# EAGLE library part 1571983-4 (library Switch)
SWITCH SLIDE DIP SPST 25MA 24V Manufacturer's datasheet <https://www.te.com/commerce/DocumentDelivery/DDEController?Action=srchrtrv&DocNm=1571983&DocType=Customer+Drawing&DocLang=English>
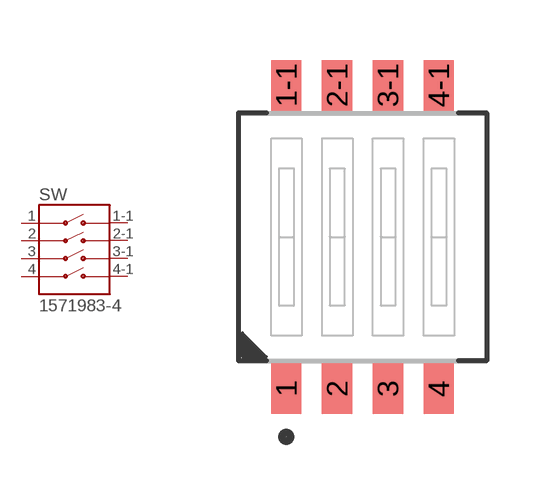
[diagram p5: symbol with the pads of 1571983-4; footprint 1571983-4]

Designator prefix SW

## 1571983-4 (CREATED_BY: PCBLayout.com; DIGIKEY_PART_NUMBER: 450-1353-ND; MANUFACTURER: TE Connectivity ALCOSWITCH Switches; MPN: 1571983-4)  [1571983-4]
1  1  pas
1-1  1-1  pas
2  2  pas
2-1  2-1  pas
3  3  pas
3-1  3-1  pas
4  4  pas
4-1  4-1  pas

## Footprint 1571983-4 (pad centres in mm)
smd 0.76 x 1.27: 1 -1.905,-3.795; 1-1 -1.905,3.795; 2 -0.635,-3.795; 2-1 -0.635,3.795; 3 0.635,-3.795; 3-1 0.635,3.795; 4 1.905,-3.795; 4-1 1.905,3.795